# Altium schematic symbol library CAP.SchLib: 1 symbol
Pins are listed as number, name and electrical type; pins without a type are passive.

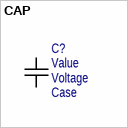
[diagram p0: symbol CAP]

## CAP
designator C?  (value not drawn)
=Case+" "+Value+" "+Tolerance+" "+Voltage+" "+Type; Case: Case; Voltage: Voltage; Value: Value
pins: 1, 2